# EAGLE library part MCP1727-1802E_SN (library samacsys)
LDO Regulator 1.5A 1.2V PG SOIC8 Source: Datasheet <http://docs-emea.rs-online.com/webdocs/131f/0900766b8131f8d7.pdf>
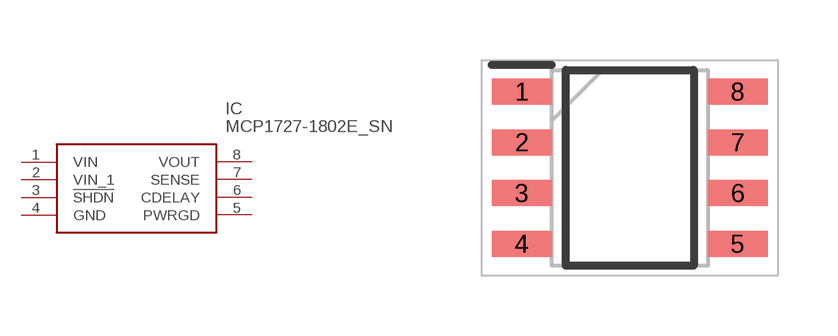
[diagram p2: symbol with the pads of SOIC127P600X175-8N; footprint SOIC127P600X175-8N]

Designator prefix IC

## MCP1727-1802E_SN (Arrow_Part_Number: MCP1727-1802E/SN; Arrow_Price-Stock: https://www.arrow.com/en/products/mcp1727-1802esn/microchip-technology; Description: LDO Regulator 1.5A 1.2V PG SOIC8; Height: 1.75mm; Manufacturer_Name: Microchip; Manufacturer_Part_Number: MCP1727-1802E/SN; Mouser_Part_Number: 579-MCP1727-1802E/SN; Mouser_Price-Stock: https://www.mouser.com/Search/Refine.aspx?Keyword=579-MCP1727-1802E%2FSN)  [SOIC127P600X175-8N]
1  VIN  in
2  VIN_1  in
3  !SHDN
4  GND  pwr
5  PWRGD
6  CDELAY
7  SENSE
8  VOUT  out

## Footprint SOIC127P600X175-8N (pad centres in mm)
8-Lead(SN) SOIC
smd 1.5 x 0.65: 1 -2.7,1.905; 2 -2.7,0.635; 3 -2.7,-0.635; 4 -2.7,-1.905; 5 2.7,-1.905; 6 2.7,-0.635; 7 2.7,0.635; 8 2.7,1.905